# Altium schematic symbol library 8W-24.000MBB-T.SchLib: 1 symbol
Pins are listed as number, name and electrical type; pins without a type are passive.

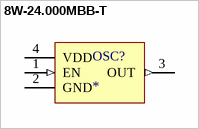
[diagram p0: symbol 8W-24.000MBB-T]

## 8W-24.000MBB-T
designator OSC?
TXC - 8W-24.000MBB-T - OSC, 24.000MHZ, 3.3V, SMD, 2.5X2.0; farnell: 1842176
footprint 8W-24.000MBB-T (TXC - 8W-24.000MBB-T - OSC, 24.000MHZ, 3.3V, SMD, 2.5X2.0)
pins: 1 EN (in), 2 GND (power), 3 OUT (out), 4 VDD (power)